# Altium footprint library EE318-PcbLib.PcbLib: 13 footprints
Each footprint in its own frame and in the unit in brackets; x right, y up, seen from the top. Pads: shape width x height; smd on the part's side, far side on the other; paste and mask are expansions set on the pad; w line width, h text height; cw(c..) or ccw(c..) is an arc to the next point about the centre after c.
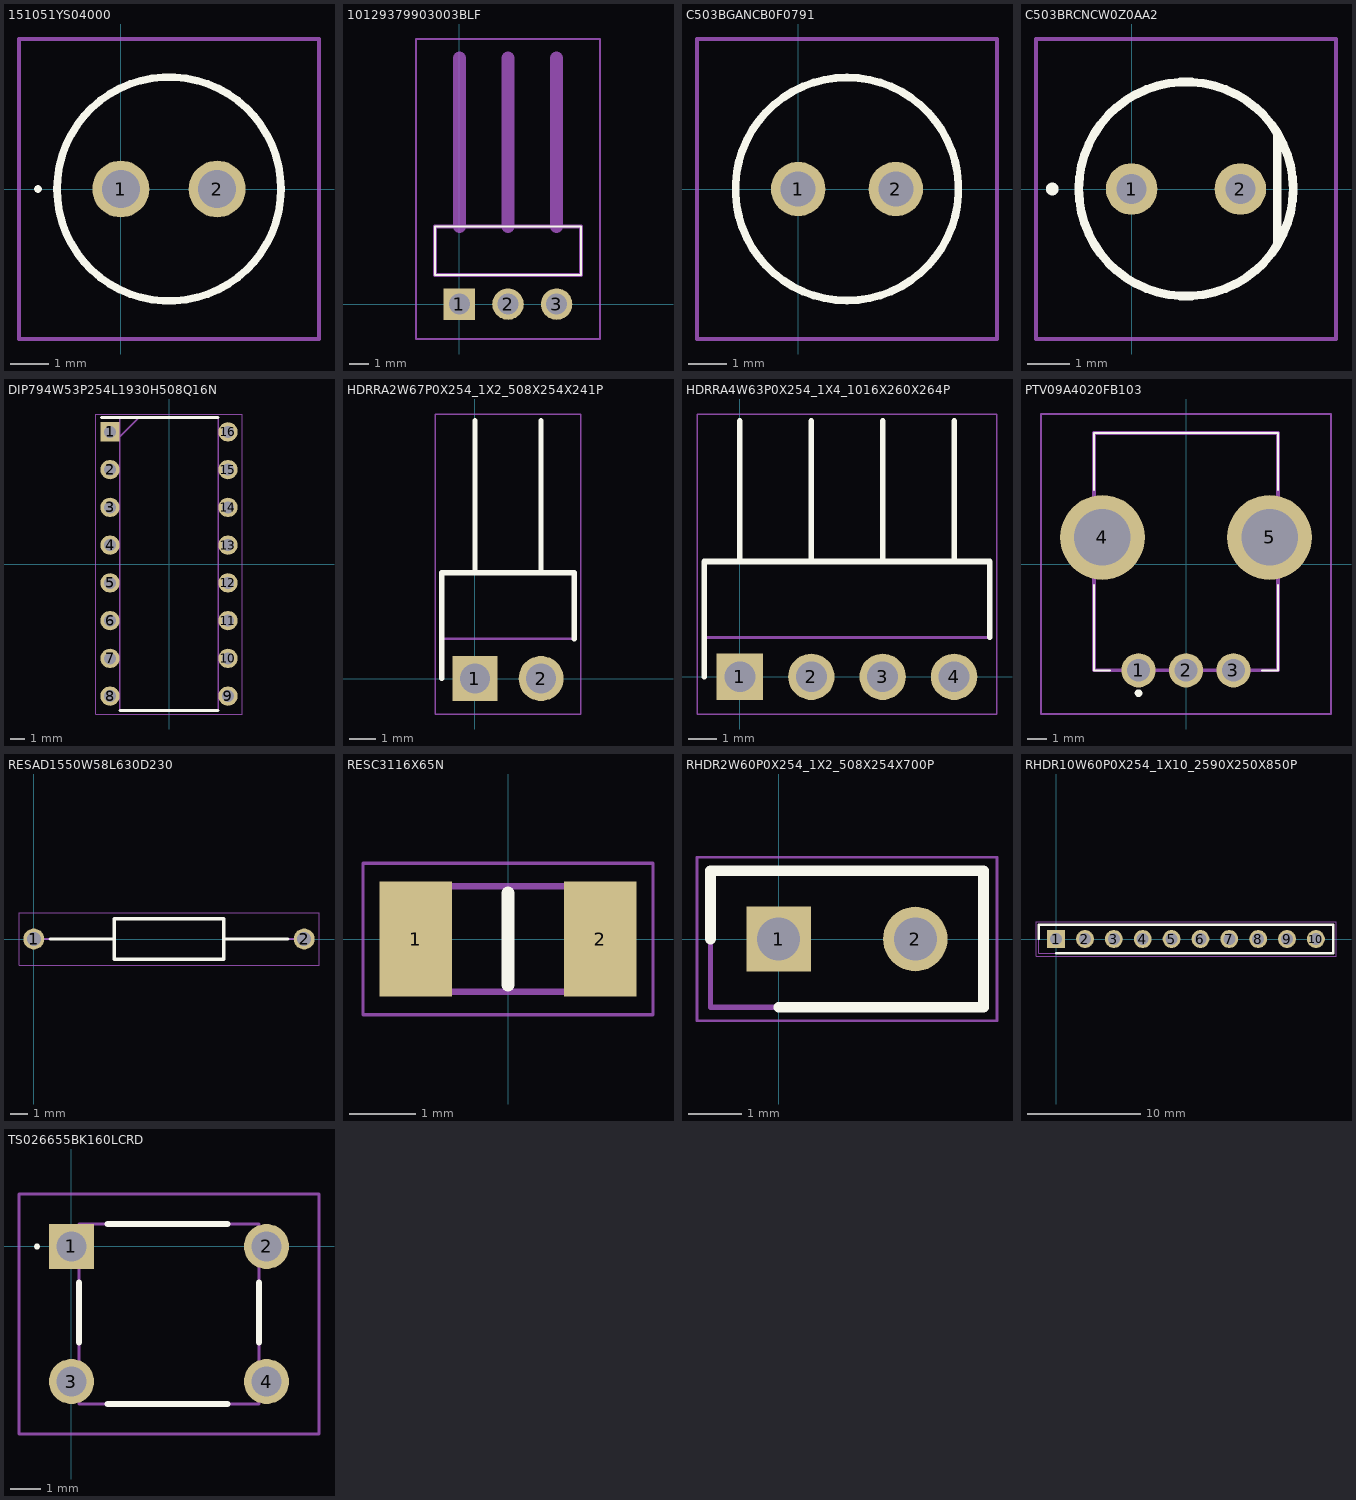
[diagram p0: the footprints below, top view; thin cyan lines are the x and y axes]

## 151051YS04000 [mm]
pads (2):
  round 1.5 hole 1: 1(0,0) 2(2.54,0)
Top Overlay:
  lines w0.1: -2.23,0 cw(c-2.18,0) -2.13,0 cw(c-2.18,0) -2.23,0
  lines w0.2: -1.68,0 ccw(c1.27,0) 4.22,0 ccw(c1.27,0) -1.68,0
Mechanical 13:
  lines w0.1: -1.68,0 ccw(c1.27,0) 4.22,0 ccw(c1.27,0) -1.68,0
Mechanical 15:
  lines w0.1: -2.68,-3.95 5.22,-3.95 5.22,3.95 -2.68,3.95 -2.68,-3.95
3D body "151051YS04000.stp": height 8.95, standoff -26.4, extent -1.68,-2.95 4.22,2.95

## 10129379903003BLF [mm]
pads (3):
  rect 1.65x1.65 hole 1.1: 1(0,0)
  round 1.65 hole 1.1: 2(2.54,0) 3(5.08,0)
Top Overlay:
  lines w0.1: -1.27,1.52 -1.27,4.06 6.35,4.06 6.35,1.52 -1.27,1.52
Mechanical 13:
  lines w0.2: -1.27,1.52 -1.27,4.06 6.35,4.06 6.35,1.52 -1.27,1.52
  lines w0.67: 0,4.06 0,12.86 ; 2.54,4.06 2.54,12.86 ; 5.08,4.06 5.08,12.86
Mechanical 15:
  lines w0.1: -2.27,-1.825 -2.27,13.86 7.35,13.86 7.35,-1.825 -2.27,-1.825
3D body "10129379-903003BLF.stp": height 2.35, standoff -3.11, extent -1.27,-0.21 6.35,12.25

## C503BGANCB0F0791 [mm]
pads (2):
  round 1.416 hole 0.91: 1(0,0) 2(2.54,0)
Top Overlay:
  lines w0.2: 1.27,-2.9 cw(c1.27,0) 1.27,2.9 cw(c1.27,0) 1.27,-2.9
Mechanical 13:
  lines w0.1: 1.27,-2.9 cw(c1.27,0) 1.27,2.9 cw(c1.27,0) 1.27,-2.9
Mechanical 15:
  lines w0.1: -2.63,-3.9 5.17,-3.9 ; -2.63,-3.9 -2.63,3.9 ; -2.63,-3.9 5.17,-3.9 ; -2.63,-3.9 -2.63,3.9 ; -2.63,3.9 5.17,3.9 ; -2.63,3.9 5.17,3.9 ; 5.17,-3.9 5.17,3.9 ; 5.17,-3.9 5.17,3.9
3D body "C503B-GAN-CB0F0791.stp": height 10.55, standoff -25, extent -1.63,-2.9 4.17,2.9

## C503BRCNCW0Z0AA2 [mm]
pads (2):
  round 1.2 hole 0.7: 1(0,0) 2(2.54,0)
Top Overlay:
  lines w0.2: 3.4,-1.3 3.4,1.3 ; -1.9,0 ccw(c-1.85,0) -1.8,0 ; -1.9,0 cw(c-1.85,0) -1.8,0 ; -1.9,0 ccw(c-1.85,0) -1.8,0 ; -1.23,0 cw(c1.27,0) 3.77,0 cw(c1.27,0) -1.23,0
Mechanical 13:
  lines w0.1: -1.23,0 cw(c1.27,0) 3.77,0 cw(c1.27,0) -1.23,0 ; 3.4,-1.2 3.4,1.3 3.4,-1.2
Mechanical 15:
  lines w0.1: -2.23,-3.5 -2.23,3.5 4.77,3.5 4.77,-3.5 -2.23,-3.5
3D body "C503B-RCN-CW0Z0AA2.stp": height 10.3, standoff -25, extent -1.63,-2.9 4.17,2.9

## DIP794W53P254L1930H508Q16N [mm]
pads (16):
  rect 1.3x1.3 hole 0.8: 1(-3.97,8.89)
  round 1.3 hole 0.8: 2(-3.97,6.35) 3(-3.97,3.81) 4(-3.97,1.27) 5(-3.97,-1.27) 6(-3.97,-3.81) 7(-3.97,-6.35) 8(-3.97,-8.89) 9(3.97,-8.89) 10(3.97,-6.35) 11(3.97,-3.81) 12(3.97,-1.27) 13(3.97,1.27) 14(3.97,3.81) 15(3.97,6.35) 16(3.97,8.89)
Top Overlay:
  lines w0.2: -4.535,9.845 3.3,9.845 ; -3.3,-9.845 3.3,-9.845
Mechanical 13:
  lines w0.1: -3.3,8.575 -2.03,9.845 ; -3.3,-9.845 3.3,-9.845 3.3,9.845 -3.3,9.845 -3.3,-9.845
Mechanical 15:
  lines w0.05: -4.945,-10.095 4.945,-10.095 4.945,10.095 -4.945,10.095 -4.945,-10.095
3D body "CD4051BE.stp": height 5.27, standoff -3.1, extent -3.937,-9.842 3.937,9.842

## HDRRA2W67P0X254_1X2_508X254X241P [mm]
pads (2):
  rect 1.725x1.725 hole 1.15: 1(0,0)
  round 1.725 hole 1.15: 2(2.54,0)
Top Overlay:
  lines w0.2: -1.27,0 -1.27,4.06 3.81,4.06 3.81,1.52 ; 0,4.06 0,9.9 ; 2.54,4.06 2.54,9.9
Mechanical 13:
  lines w0.1: -1.27,1.52 -1.27,4.06 3.81,4.06 3.81,1.52 -1.27,1.52
Mechanical 15:
  lines w0.05: -1.52,-1.362 4.06,-1.362 4.06,10.15 -1.52,10.15 -1.52,-1.362
3D body "10129379-902001BLF.stp": height 2.41, standoff -3.05, extent -1.27,-0.28 3.81,9.94

## HDRRA4W63P0X254_1X4_1016X260X264P [mm]
pads (4):
  rect 1.65x1.65 hole 1.1: 1(0,0)
  round 1.65 hole 1.1: 2(2.54,0) 3(5.08,0) 4(7.62,0)
Top Overlay:
  lines w0.2: -1.27,0 -1.27,4.1 8.89,4.1 8.89,1.4 ; 0,4.1 0,9.1 ; 2.54,4.1 2.54,9.1 ; 5.08,4.1 5.08,9.1 ; 7.62,4.1 7.62,9.1
Mechanical 13:
  lines w0.1: -1.27,1.4 8.89,1.4 8.89,4.1 -1.27,4.1 -1.27,1.4
Mechanical 15:
  lines w0.05: -1.52,-1.325 -1.52,9.35 9.14,9.35 9.14,-1.325 -1.52,-1.325
3D body "861400041LO1705LF.stp": height 2.64, standoff -5, extent -1.27,-0.315 8.89,9.3

## PTV09A4020FB103 [mm]
pads (5):
  round 1.8 hole 1.2: 1(-2.5,-5.6) 2(0,-5.6) 3(2.5,-5.6)
  round 4.46 hole 2.973: 4(-4.4,1.4) 5(4.4,1.4)
Top Overlay:
  lines w0.1: -4.85,-1.1 -4.85,-5.6 -4,-5.6 ; -4.85,3.9 -4.85,6.9 4.85,6.9 4.85,3.9 ; 4,-5.6 4.85,-5.6 4.85,-1.1
  lines w0.2: -2.6,-6.8 ccw(c-2.5,-6.8) -2.4,-6.8 ccw(c-2.5,-6.8) -2.6,-6.8
Mechanical 13:
  lines w0.2: -4.85,-5.6 -4.85,6.9 4.85,6.9 4.85,-5.6 -4.85,-5.6
Mechanical 15:
  lines w0.1: -7.63,-7.9 -7.63,7.9 7.63,7.9 7.63,-7.9 -7.63,-7.9
3D body "PTV09A-4225F-B103.stp": height 25.08, standoff -3.66, extent -5.477,-5.847 5.477,6.605

## RESAD1550W58L630D230 [mm]
pads (2):
  round 1.2 hole 0.8: 1(0,0) 2(15.5,0)
Top Overlay:
  lines w0.2: 0.95,0 4.6,0 ; 10.9,0 14.55,0 ; 4.6,-1.15 10.9,-1.15 10.9,1.15 4.6,1.15 4.6,-1.15
Mechanical 13:
  lines w0.1: 0,0 4.6,0 ; 10.9,0 15.5,0 ; 4.6,-1.15 10.9,-1.15 10.9,1.15 4.6,1.15 4.6,-1.15
Mechanical 15:
  lines w0.05: -0.85,-1.5 16.35,-1.5 16.35,1.5 -0.85,1.5 -0.85,-1.5
3D body "RS-Carbon-1k-5%-0.25W.stp": height 2.59, standoff -2.6, extent -0.288,-1.297 15.79,1.297

## RESC3116X65N [mm]
pads (2):
  rect 1.1x1.75 smd: 1(-1.4,0) 2(1.4,0)
Top Overlay:
  lines w0.2: 0,-0.7 0,0.7
Mechanical 13:
  lines w0.1: -1.55,-0.8 1.55,-0.8 1.55,0.8 -1.55,0.8 -1.55,-0.8
Mechanical 15:
  lines w0.05: -2.2,-1.15 2.2,-1.15 2.2,1.15 -2.2,1.15 -2.2,-1.15
3D body "CRS1206QFX-1002ELF.stp": height 0.65, standoff 0, extent -1.55,-0.8 1.55,0.8

## RHDR2W60P0X254_1X2_508X254X700P [mm]
pads (2):
  rect 1.2x1.2 hole 0.8: 1(0,0)
  round 1.2 hole 0.8: 2(2.54,0)
Top Overlay:
  lines w0.2: -1.27,0 -1.27,1.27 3.81,1.27 3.81,-1.27 0,-1.27
Mechanical 13:
  lines w0.1: -1.27,-1.27 3.81,-1.27 3.81,1.27 -1.27,1.27 -1.27,-1.27
Mechanical 15:
  lines w0.05: -1.52,-1.52 4.06,-1.52 4.06,1.52 -1.52,1.52 -1.52,-1.52
3D body "801-87-002-10-001101.stp": height 7, standoff -3, extent -1.27,-1.27 3.81,1.27

## RHDR10W60P0X254_1X10_2590X250X850P [mm]
pads (10):
  rect 1.575x1.575 hole 1.05: 1(0,0)
  round 1.575 hole 1.05: 2(2.54,0) 3(5.08,0) 4(7.62,0) 5(10.16,0) 6(12.7,0) 7(15.24,0) 8(17.78,0) 9(20.32,0) 10(22.86,0)
Top Overlay:
  lines w0.2: -1.52,0 -1.52,1.25 24.38,1.25 24.38,-1.25 0,-1.25
Mechanical 13:
  lines w0.1: -1.52,-1.25 -1.52,1.25 24.38,1.25 24.38,-1.25 -1.52,-1.25
Mechanical 15:
  lines w0.05: -1.77,-1.5 -1.77,1.5 24.63,1.5 24.63,-1.5 -1.77,-1.5
3D body "61301011821.stp": height 8.5, standoff -3.1, extent -1.52,-1.25 24.38,1.25

## TS026655BK160LCRD [mm]
pads (4):
  rect 1.5x1.5 hole 1: 1(0,0)
  round 1.5 hole 1: 2(6.5,0) 3(0,-4.5) 4(6.5,-4.5)
Top Overlay:
  lines w0.1: -1.2,0 ccw(c-1.15,0) -1.1,0 ccw(c-1.15,0) -1.2,0
  lines w0.2: 0.25,-3.2 0.25,-1.2 ; 1.2,-5.25 5.2,-5.25 ; 1.2,0.75 5.2,0.75 ; 6.25,-3.2 6.25,-1.2
Mechanical 13:
  lines w0.1: 0.25,-5.25 6.25,-5.25 6.25,0.75 0.25,0.75 0.25,-5.25
Mechanical 15:
  lines w0.1: -1.75,-6.25 8.25,-6.25 8.25,1.75 -1.75,1.75 -1.75,-6.25
3D body "TS02-66-55-BK-160-LCR-D.stp": height 5.8, standoff -5, extent -0.397,-5.25 6.9,0.75